# EAGLE library part W25X10BV (library xess)
Winbond W25X10BV/20BV/40BV SPI Flash
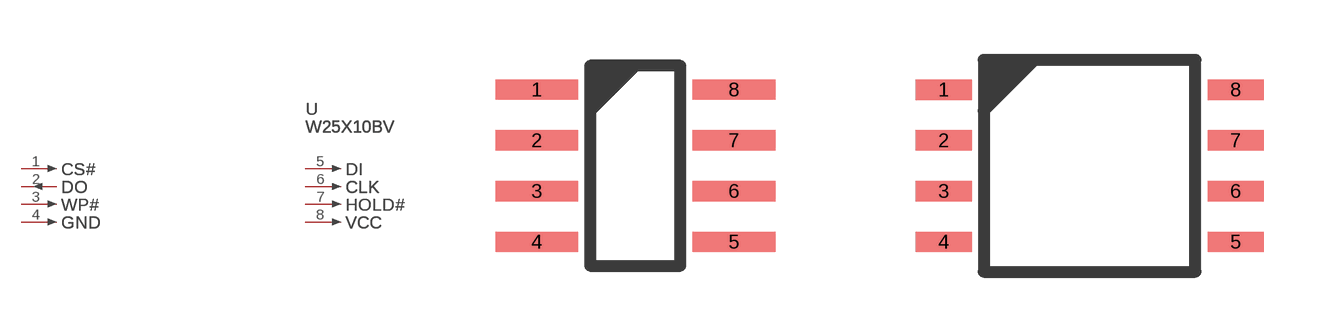
[diagram p130: symbol with the pads of WINBOND-8_SOIC_150; footprints WINBOND-8_SOIC_150, WINBOND-8_SOIC_208]

Designator prefix U; gates PART=PV_GATE CS#=PIN_GATE_IN DO=PIN_GATE_OUT WP#=PIN_GATE_IN GND=PIN_GATE_IN DI=PIN_GATE_IN CLK=PIN_GATE_IN HOLD#=PIN_GATE_IN VCC=PIN_GATE_IN

## W25X10BV-SNIG  [WINBOND-8_SOIC_150]
1  CS#:1  in
2  DO:1  out
3  WP#:1  in
4  GND:1  in
5  DI:1  in
6  CLK:1  in
7  HOLD#:1  in
8  VCC:1  in

## W25X10BV-SSIG  [WINBOND-8_SOIC_208]
Pads as for WINBOND-8_SOIC_150

## W25X10BV-SNIG/SSIG  [WINBOND-8_SOIC_150_208]
Pads as for WINBOND-8_SOIC_150

## Footprint WINBOND-8_SOIC_150 (pad centres in mm)
Winbond 8-Lead 150-Mil Plastic Small Outline Package
smd 2.07 x 0.51: 1 0,0; 2 0,-1.27; 3 0,-2.54; 4 0,-3.81; 5 4.93,-3.81; 6 4.93,-2.54; 7 4.93,-1.27; 8 4.93,0

## Footprint WINBOND-8_SOIC_208 (pad centres in mm)
Winbond 8-Lead 208-Mil Plastic Small Outline Package
smd 1.4 x 0.51: 1 -0.1,0; 2 -0.1,-1.27; 3 -0.1,-2.54; 4 -0.1,-3.81; 5 7.2,-3.81; 6 7.2,-2.54; 7 7.2,-1.27; 8 7.2,0

## Footprint WINBOND-8_SOIC_150_208 (pad centres in mm)
Winbond 8-Lead 150/208-Mil Plastic Small Outline Package
smd 2.921 x 0.51: 1 1.06,0; 2 1.06,-1.27; 3 1.06,-2.54; 4 1.06,-3.81; 5 6.839,-3.81; 6 6.839,-2.54; 7 6.839,-1.27; 8 6.839,0